# Altium integrated library DB9W4S500M30LF.IntLib: 1 symbol
Pins are listed as number, name and electrical type; pins without a type are passive.

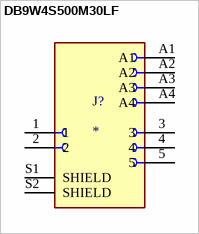
[diagram p0: symbol DB9W4S500M30LF]

## DB9W4S500M30LF
designator J?
D-Sub Power Board Mount Connectors, Input Output Connectors, Mixed Signal and Power 9W4 Socket Right Angle Solder 30A, Europe Standard, 200 Cycles, Front: Without Accessory, Back: Metal Brackets.; MP: DB9W4S500M30LF; MF: Amphenol FCI; SnapEDA_Link: https://www.snapeda.com/parts/DB9W4S500M30LF/Amphenol/view-part/?ref=snap; Price: None; Check_prices: https://www.snapeda.com/parts/DB9W4S500M30LF/Amphenol/view-part/?ref=eda; Availability: In Stock; Value: *; Package: None
footprint AMPHENOL_DB9W4S500M30LF
pins: 1, 2, 3, 4, 5, A1 (power), A2 (power), A3 (power), A4 (power), S1 SHIELD, S2 SHIELD